# EAGLE library part MOTEINO (library jbs-eagle-lib)
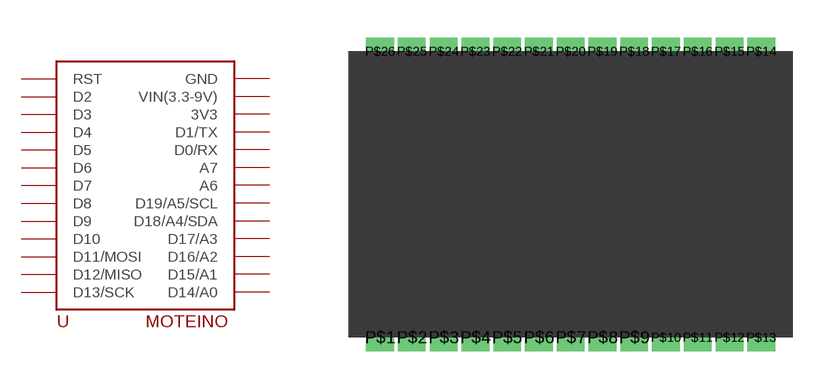
[diagram p0: symbol with the pads of MOTENIO; footprint MOTENIO]

Designator prefix U

## MOTEINO  [MOTENIO]
P$1  RST  in
P$2  D2
P$3  D3
P$4  D4
P$5  D5
P$6  D6
P$7  D7
P$8  D8
P$9  D9
P$10  D10
P$11  D11/MOSI
P$12  D12/MISO
P$13  D13/SCK
P$14  D14/A0
P$15  D15/A1
P$16  D16/A2
P$17  D17/A3
P$18  D18/A4/SDA
P$19  D19/A5/SCL
P$20  A6
P$21  A7
P$22  D0/RX
P$23  D1/TX
P$24  3V3  pwr
P$25  VIN(3.3-9V)  pwr
P$26  GND  pwr

## Footprint MOTENIO (pad centres in mm)
drill 0.6 square: P$1 1.27,0; P$2 2.54,0; P$3 3.81,0; P$4 5.08,0; P$5 6.35,0; P$6 7.62,0; P$7 8.89,0; P$8 10.16,0; P$9 11.43,0; P$10 12.7,0; P$11 13.97,0; P$12 15.24,0; P$13 16.51,0; P$14 16.51,11.43; P$15 15.24,11.43; P$16 13.97,11.43; P$17 12.7,11.43; P$18 11.43,11.43; P$19 10.16,11.43; P$20 8.89,11.43; P$21 7.62,11.43; P$22 6.35,11.43; P$23 5.08,11.43; P$24 3.81,11.43; P$25 2.54,11.43; P$26 1.27,11.43